# Altium schematic symbol library SCH - MCU - NUVOTON - NUVOTON ML51TD1AE.SchLib: 1 symbol
Pins are listed as number, name and electrical type; pins without a type are passive.

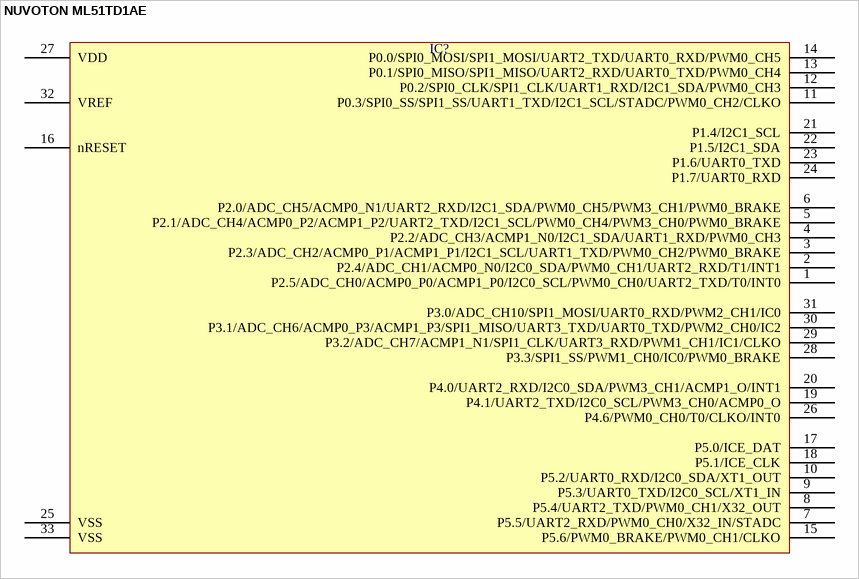
[diagram p0: symbol NUVOTON ML51TD1AE]

## NUVOTON ML51TD1AE
designator IC?  (value not drawn)
pins: 1 P2.5/ADC_CH0/ACMP0_P0/ACMP1_P0/I2C0_SCL/PWM0_CH0/UART2_TXD/T0/INT0, 2 P2.4/ADC_CH1/ACMP0_N0/I2C0_SDA/PWM0_CH1/UART2_RXD/T1/INT1, 3 P2.3/ADC_CH2/ACMP0_P1/ACMP1_P1/I2C1_SCL/UART1_TXD/PWM0_CH2/PWM0_BRAKE, 4 P2.2/ADC_CH3/ACMP1_N0/I2C1_SDA/UART1_RXD/PWM0_CH3, 5 P2.1/ADC_CH4/ACMP0_P2/ACMP1_P2/UART2_TXD/I2C1_SCL/PWM0_CH4/PWM3_CH0/PWM0_BRAKE, 6 P2.0/ADC_CH5/ACMP0_N1/UART2_RXD/I2C1_SDA/PWM0_CH5/PWM3_CH1/PWM0_BRAKE, 7 P5.5/UART2_RXD/PWM0_CH0/X32_IN/STADC, 8 P5.4/UART2_TXD/PWM0_CH1/X32_OUT, 9 P5.3/UART0_TXD/I2C0_SCL/XT1_IN, 10 P5.2/UART0_RXD/I2C0_SDA/XT1_OUT, 11 P0.3/SPI0_SS/SPI1_SS/UART1_TXD/I2C1_SCL/STADC/PWM0_CH2/CLKO, 12 P0.2/SPI0_CLK/SPI1_CLK/UART1_RXD/I2C1_SDA/PWM0_CH3, 13 P0.1/SPI0_MISO/SPI1_MISO/UART2_RXD/UART0_TXD/PWM0_CH4, 14 P0.0/SPI0_MOSI/SPI1_MOSI/UART2_TXD/UART0_RXD/PWM0_CH5, 15 P5.6/PWM0_BRAKE/PWM0_CH1/CLKO, 16 nRESET, 17 P5.0/ICE_DAT, 18 P5.1/ICE_CLK, 19 P4.1/UART2_TXD/I2C0_SCL/PWM3_CH0/ACMP0_O, 20 P4.0/UART2_RXD/I2C0_SDA/PWM3_CH1/ACMP1_O/INT1, 21 P1.4/I2C1_SCL, 22 P1.5/I2C1_SDA, 23 P1.6/UART0_TXD, 24 P1.7/UART0_RXD, 25 VSS, 26 P4.6/PWM0_CH0/T0/CLKO/INT0, 27 VDD, 28 P3.3/SPI1_SS/PWM1_CH0/IC0/PWM0_BRAKE, 29 P3.2/ADC_CH7/ACMP1_N1/SPI1_CLK/UART3_RXD/PWM1_CH1/IC1/CLKO, 30 P3.1/ADC_CH6/ACMP0_P3/ACMP1_P3/SPI1_MISO/UART3_TXD/UART0_TXD/PWM2_CH0/IC2, 31 P3.0/ADC_CH10/SPI1_MOSI/UART0_RXD/PWM2_CH1/IC0, 32 VREF, 33 VSS